# EAGLE library part FTDI (library Cing Library)
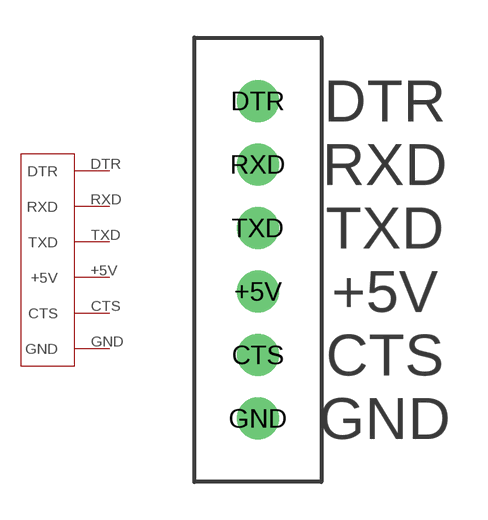
[diagram p3: symbol with the pads of FTDI; footprint FTDI]

Designator prefix -

## FTDI  [FTDI]
+5V  +5V
CTS  CTS
DTR  DTR
GND  GND
RXD  RXD
TXD  TXD

## Footprint FTDI (pad centres in mm)
drill 0.8 pad 1.676: +5V 0,-1.27; CTS 0,-3.81; DTR 0,6.35; GND 0,-6.35; RXD 0,3.81; TXD 0,1.27